# EAGLE library part 5051103096 (library NA-2025)
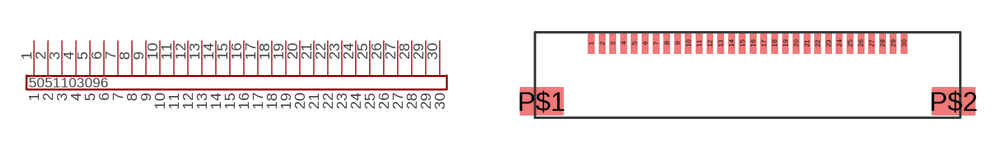
[diagram p4: symbol with the pads of 5051103096; footprint 5051103096]

Designator prefix -

## 5051103096  [5051103096]
1  1
2  2
3  3
4  4
5  5
6  6
7  7
8  8
9  9
10  10
11  11
12  12
13  13
14  14
15  15
16  16
17  17
18  18
19  19
20  20
21  21
22  22
23  23
24  24
25  25
26  26
27  27
28  28
29  29
30  30

## Footprint 5051103096 (pad centres in mm)
smd 0.3 x 1: 1 -7.25,1.475; 2 -6.75,1.475; 3 -6.25,1.475; 4 -5.75,1.475; 5 -5.25,1.475; 6 -4.75,1.475; 7 -4.25,1.475; 8 -3.75,1.475; 9 -3.25,1.475; 10 -2.75,1.475; 11 -2.25,1.475; 12 -1.75,1.475; 13 -1.25,1.475; 14 -0.75,1.475; 15 -0.25,1.475; 16 0.25,1.475; 17 0.75,1.475; 18 1.25,1.475; 19 1.75,1.475; 20 2.25,1.475; 21 2.75,1.475; 22 3.25,1.475; 23 3.75,1.475; 24 4.25,1.475; 25 4.75,1.475; 26 5.25,1.475; 27 5.75,1.475; 28 6.25,1.475; 29 6.75,1.475; 30 7.25,1.475
smd 2 x 1.3: P$1 -9.55,-1.225; P$2 9.55,-1.225